# Altium schematic symbol library ArrayResistors.SchLib: 4 symbols
Pins are listed as number, name and electrical type; pins without a type are passive.

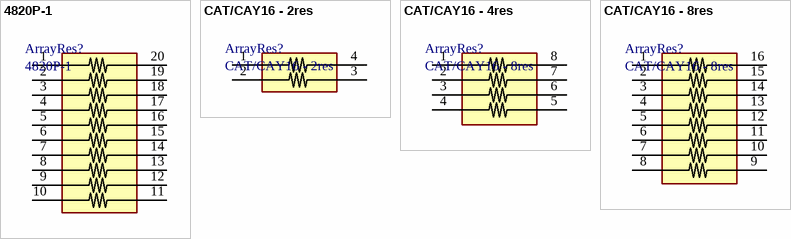
[diagram p0: symbols 4820P-1 to CAT/CAY16 - 8res]

## 4820P-1
designator ArrayRes?
Marca Brouns
footprint ArrayRes 4820P-1 (marca Bourns)
pins: 1, 2, 3, 4, 5, 6, 7, 8, 9, 10, 11, 12, 13, 14, 15, 16, 17, 18, 19, 20

## CAT/CAY16 - 2res
designator ArrayRes?
Marca Brouns
footprint ArrayRes CAT16-2res (marca Bourns)
pins: 1, 2, 3, 4

## CAT/CAY16 - 4res
designator ArrayRes?, comment CAT/CAY16 - 8res
Marca Brouns
footprint ArrayRes CAT16-4res (marca Bourns)
pins: 1, 2, 3, 4, 5, 6, 7, 8

## CAT/CAY16 - 8res
designator ArrayRes?
Marca Brouns
footprint ArrayRes CAY16-8res (marca Bourns)
footprint ArrayRes CAT16-8res (marca Bourns)
pins: 1, 2, 3, 4, 5, 6, 7, 8, 9, 10, 11, 12, 13, 14, 15, 16